# Altium integrated library ESC Board Sample.IntLib: 4 symbols
Pins are listed as number, name and electrical type; pins without a type are passive.

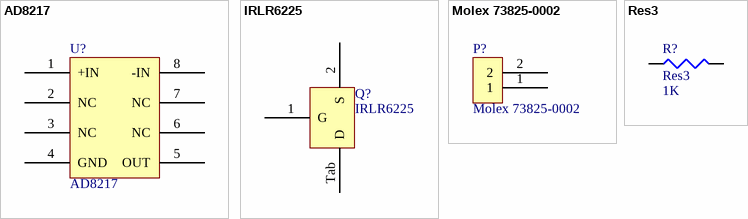
[diagram p0: symbols AD8217 to Res3]

## AD8217
designator U?
footprint AD8217 (CurrentMonitor)
pins: 1 +IN, 2 NC, 3 NC, 4 GND, 5 OUT, 6 NC, 7 NC, 8 -IN

## IRLR6225
designator Q?
footprint IRLR6225 (D-PAK, 3-Pads, Body 6.21x6.73mm (max), IPC High Density)
pins: 1 G, 2 S, Tab D

## Molex 73825-0002
designator P?
ComponentLink1Description: Drawing; ComponentLink1URL: https://www.molex.com/pdm_docs/sd/768250002_sd.pdf; ComponentLink2Description: Molex Website; ComponentLink2URL: https://www.molex.com/molex/products/datasheet.jsp?part=active/0768250002_PCB_HEADERS.xml; ComponentLink3Description: Digi-Key; ComponentLink3URL: https://www.digikey.com/products/en?keywords=76825-0002
footprint Molex 76825-0002
pins: 1 (power), 2 (power)

## Res3
designator R?  value 1K
Resistor; Published: 8-Jun-2000; LatestRevisionDate: 29-May-2009; LatestRevisionNote: IPC-7351 Footprint Added.; PackageReference: J1-0603; Publisher: Altium Limited; PackageDescription: Chip Resistor
footprint J1-0603 (Chip Resistor, Body 1.6x0.8mm, IPC High Density)
footprint 14-1210 (Chip Resistor, Body 3.2x2.5mm, IPC High Density)
footprint 12Z-2010 (Chip Resistor, Body 5.0x2.5mm, IPC High Density)
footprint RESC6332 (Chip Resistor, Body 6.3x3.2mm, IPC High Density)
simulation model RESISTOR (Resistor)
signal-integrity model Res
pins: 1, 2